# Altium schematic symbol library 2118728-2.SchLib: 1 symbol
Pins are listed as number, name and electrical type; pins without a type are passive.

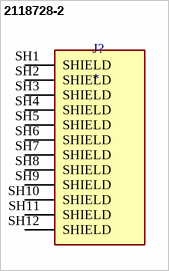
[diagram p0: symbol 2118728-2]

## 2118728-2
designator J?
MF: {'manufacturer': u'TE Connectivity'}; MP: 2118728-2; Package: None; Price: None; Value: *; Availability: Unavailable
footprint TE_2118728-2
pins: SH1 SHIELD, SH2 SHIELD, SH3 SHIELD, SH4 SHIELD, SH5 SHIELD, SH6 SHIELD, SH7 SHIELD, SH8 SHIELD, SH9 SHIELD, SH10 SHIELD, SH11 SHIELD, SH12 SHIELD